# Altium footprint library PCB - SWITCH - NCE CUS-12TB.PcbLib: 1 footprints
Each footprint in its own frame and in the unit in brackets; x right, y up, seen from the top. Pads: shape width x height; smd on the part's side, far side on the other; paste and mask are expansions set on the pad; w line width, h text height; cw(c..) or ccw(c..) is an arc to the next point about the centre after c.
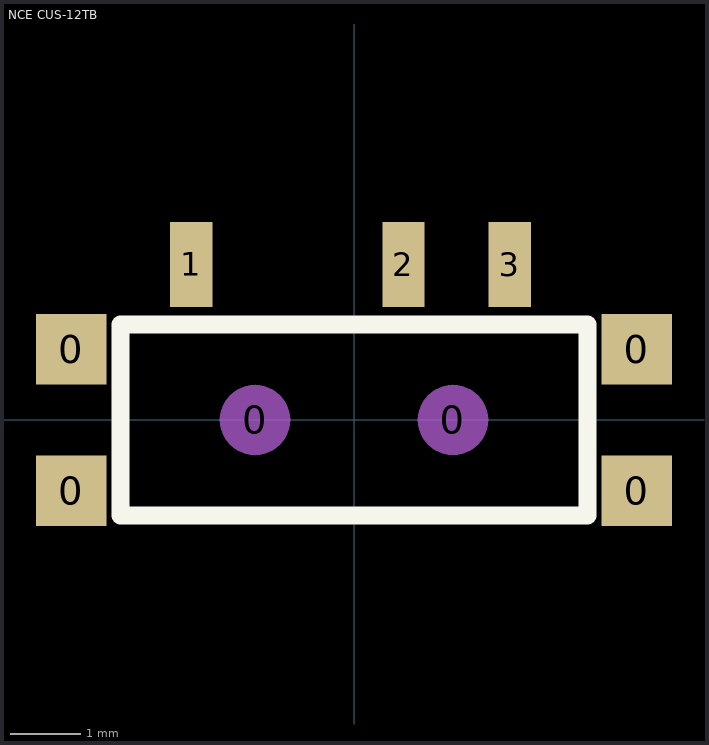
[diagram p0: the footprint, top view; thin cyan lines are the x and y axes]

## NCE CUS-12TB [mm]
pads (9):
  rect 1x1 smd: 0(-4,-1) 0(-4,1) 0(4,-1) 0(4,1)
  round 1 on Mech1: 0(-1.4,0) 0(1.4,0)
  rect 0.6x1.2 smd: 1(-2.3,2.2) 2(0.7,2.2) 3(2.2,2.2)
Top Overlay:
  lines w0.254: -3.3,-1.35 3.3,-1.35 3.3,1.35 -3.3,1.35 -3.3,-1.35
3D body "NCE - CUS-12TB v5.step": height 1.4, standoff -0.5, extent -3.85,-2.8 3.85,2.2